# EAGLE library part MAX671 (library 000001)
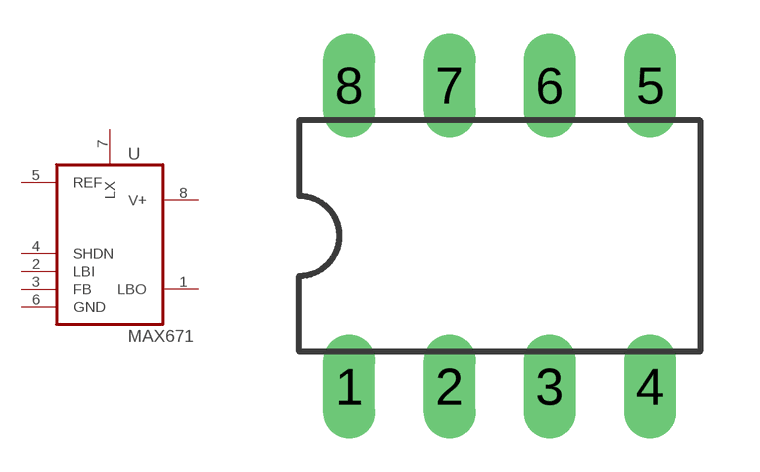
[diagram p13: symbol with the pads of DIL08; footprint DIL08]

Designator prefix -

## MAX671  [DIL08]
1  LBO  pas
2  LBI  in
3  FB  in
4  SHDN  in
5  REF  in
6  GND  pwr
7  LX  pwr
8  V+  pas

## Footprint DIL08 (pad centres in mm)
Dual In Line Package
drill 0.813 long: 1 -3.81,-3.81; 2 -1.27,-3.81; 3 1.27,-3.81; 4 3.81,-3.81; 5 3.81,3.81; 6 1.27,3.81; 7 -1.27,3.81; 8 -3.81,3.81